# EAGLE library part TPS54231 (library ti_2020)
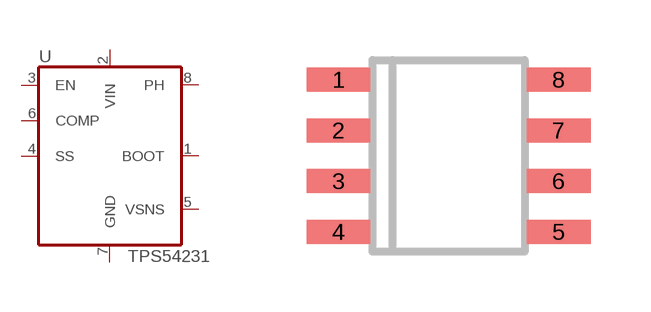
[diagram p2: symbol with the pads of SOIC-8; footprint SOIC-8]

Designator prefix U

## TPS54231  [SOIC-8]
1  BOOT  out
2  VIN  out
3  EN  out
4  SS  out
5  VSNS  out
6  COMP  out
7  GND  out
8  PH  out

## Footprint SOIC-8 (pad centres in mm)
smd 1.6 x 0.6: 1 -2.75,1.905; 2 -2.75,0.635; 3 -2.75,-0.635; 4 -2.75,-1.905; 5 2.75,-1.905; 6 2.75,-0.635; 7 2.75,0.635; 8 2.75,1.905